# EAGLE library part USB4125-GF-A (library USB4125-GF-A)
USB-C (USB TYPE-C) Receptacle Connector 24 (6+18 Dummy) Position Surface Mount, Right Angle; Through Hole Source: Datasheet <https://gct.co/files/drawings/usb4125.pdf?v=f2858e04-a173-4b74-b17f-8f865ddc3728>
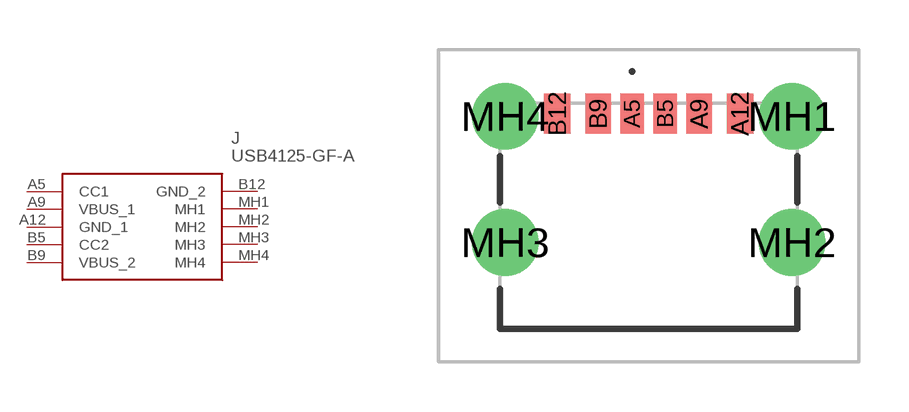
[diagram p0: symbol with the pads of USB4125GFA; footprint USB4125GFA]

Designator prefix J

## USB4125-GF-A (Description: USB-C (USB TYPE-C) Receptacle Connector 24 (6+18 Dummy) Position Surface Mount, Right Angle; Through Hole; Height: 3.41mm; Manufacturer_Name: GCT (GLOBAL CONNECTOR TECHNOLOGY); Manufacturer_Part_Number: USB4125-GF-A; Mouser_Part_Number: 640-USB4125-GF-A; Mouser_Price-Stock: https://www.mouser.co.uk/ProductDetail/GCT/USB4125-GF-A?qs=KUoIvG%2F9IlaIQ4zBJ6gLeA%3D%3D)  [USB4125GFA]
A5  CC1
A9  VBUS_1
A12  GND_1
B5  CC2
B9  VBUS_2
B12  GND_2
MH1  MH1
MH2  MH2
MH3  MH3
MH4  MH4

## Footprint USB4125GFA (pad centres in mm)
USB4125-GF-A-6
smd 0.7 x 1.2: A5 -0.5,2.778; B5 0.5,2.778
smd 0.76 x 1.2: A9 1.52,2.778; B9 -1.52,2.778
smd 0.8 x 1.2: A12 2.75,2.778; B12 -2.75,2.778
drill 1.34 pad 2.01: MH1 4.32,2.698; MH2 4.32,-1.102; MH3 -4.32,-1.102; MH4 -4.32,2.698